# Altium footprint library PcbLib1.PcbLib: 20 footprints (part 2 of 2)
Each footprint in its own frame and in the unit in brackets; x right, y up, seen from the top. Pads: shape width x height; smd on the part's side, far side on the other; paste and mask are expansions set on the pad; w line width, h text height; cw(c..) or ccw(c..) is an arc to the next point about the centre after c.
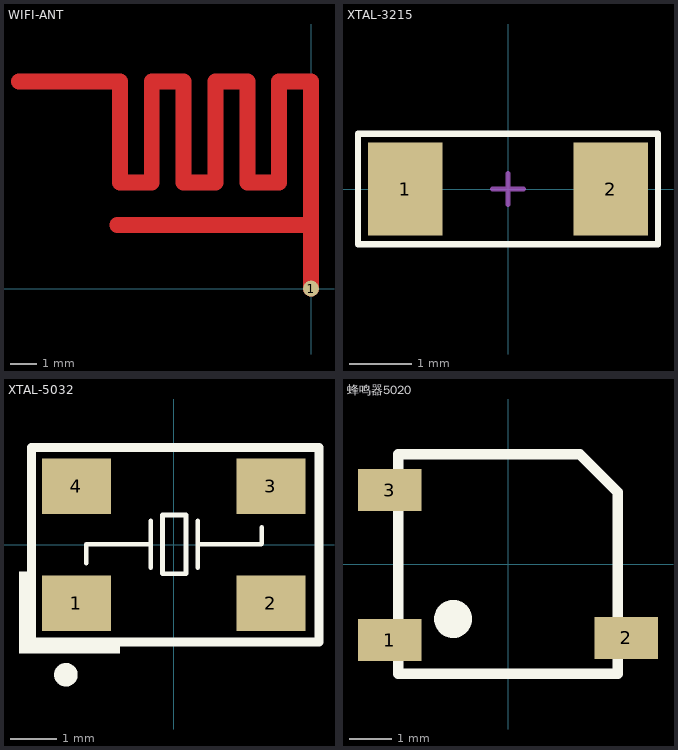
[diagram p1: the footprints below, top view; thin cyan lines are the x and y axes]

## WIFI-ANT [mm]
pads (1):
  round 0.6 smd: 1(0,0)
Top Layer:
  lines w0.6: -11,7.8 -7.2,7.8 -7.2,4 -6,4 -6,7.8 -4.8,7.8 -4.8,4 -3.6,4 -3.6,7.8 -2.4,7.8 -2.4,4 -1.2,4 -1.2,7.8 0,7.8 0,0 ; -7.3,2.4 0,2.4
Top Solder:
  lines w0.8: -11,7.8 -7.2,7.8 -7.2,4 -6,4 -6,7.8 -4.8,7.8 -4.8,4 -3.6,4 -3.6,7.8 -2.4,7.8 -2.4,4 -1.2,4 -1.2,7.8 0,7.8 0,0 ; -7.3,2.4 0,2.4

## XTAL-3215 [mm]
pads (2):
  rect 1.2x1.5 smd: 1(-1.65,0) 2(1.65,0)
Top Overlay:
  lines w0.1: -2.413,-0.889 2.413,-0.889 2.413,0.889 -2.413,0.889 -2.413,-0.889
Mechanical 15:
  lines w0.076: -0.254,0 0.254,0 ; 0,-0.254 0,0.254
3D body "User Library-X3215.STEP": height 0.81, standoff 0, extent -1.6,-0.75 1.6,0.75

## XTAL-5032 [mm]
pads (4):
  rect 1.5x1.2 smd: 1(-2.108,-1.27) 2(2.108,-1.27) 3(2.108,1.27) 4(-2.108,1.27)
Top Overlay:
  circle w0.254: c-2.337,-2.819 r0.127
  rectangle: -3.175,-2.362 -1.168,-2.108
  rectangle: -3.353,-2.362 -3.175,-0.584
  lines w0.1: -1.897,-0.406 -1.897,0.008 -0.496,0.008 ; -0.496,-0.5 -0.496,0.516 ; 0.52,-0.5 0.52,0.516 ; 0.52,0.008 1.902,0.008 1.905,0.016 1.905,0.381 ; -0.242,-0.627 -0.242,0.643 0.266,0.643 0.266,0.326 0.266,-0.309 0.266,-0.627 -0.242,-0.627
  lines w0.2: -3.079,-2.108 3.15,-2.108 3.15,2.108 -3.079,2.108 -3.079,-2.108
3D body "User Library-CRYSTALSMD5X32.STEP": height 1, standoff 0, extent -2.5,-1.6 2.5,1.6

## 蜂鸣器5020 [mm] "无源蜂鸣器"
height 2
pads (3):
  rect 1.5x1 smd: 1(-2.8,-1.8) 2(2.8,-1.75) 3(-2.8,1.75)
Top Overlay:
  circle w0.5: c-1.3,-1.3 r0.2
  lines w0.254: -2.6,-2.6 2.6,-2.6 2.6,1.7 1.7,2.6 -2.6,2.6 -2.6,-2.6
3D body "Beep_5020_SMT.STEP": height 2, standoff -0.01, extent -2.6,-2.625 2.6,2.575